# Altium footprint library 2440PCBV3.PcbLib: 52 footprints (part 2 of 4)
Each footprint in its own frame and in the unit in brackets; x right, y up, seen from the top. Pads: shape width x height; smd on the part's side, far side on the other; paste and mask are expansions set on the pad; w line width, h text height; cw(c..) or ccw(c..) is an arc to the next point about the centre after c.
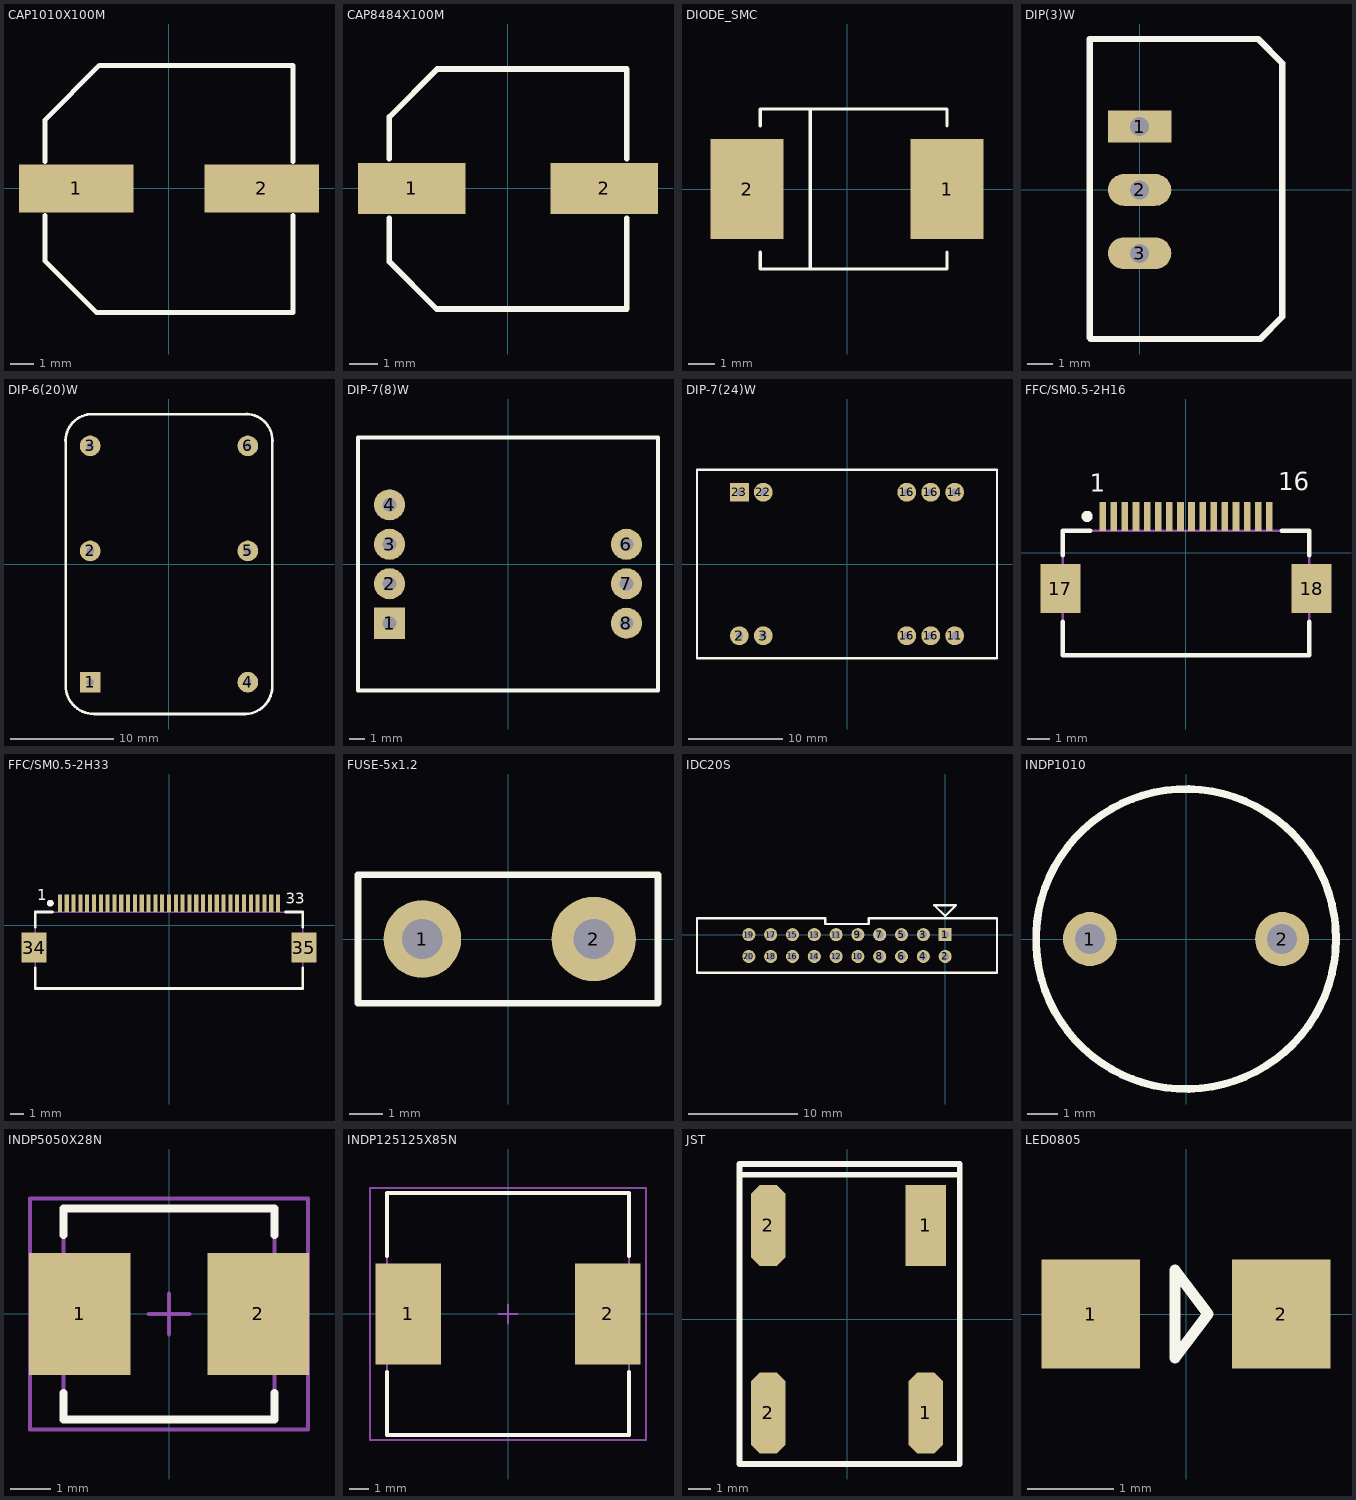
[diagram p1: the footprints below, top view; thin cyan lines are the x and y axes]

## CAP1010X100M [mm]
height 10
pads (2):
  rect 4.8x2 smd: 1(-3.9,0) 2(3.9,0)
Top Overlay:
  lines w0.2: -5.207,-1.125 -5.207,-3.049 -3.042,-5.214 5.207,-5.214 5.207,-1.125 ; -5.207,1.125 -5.207,2.891 -2.929,5.169 5.207,5.169 5.207,1.125
3D body: height 10.2, standoff 0, extent -5.839,-5.19 5.761,5.11

## CAP8484X100M [mm]
height 10
pads (2):
  rect 3.8x1.8 smd: 1(-3.4,0) 2(3.4,0)
Top Overlay:
  lines w0.2: -4.191,-1.05 -4.191,-2.594 -2.522,-4.263 4.191,-4.263 4.191,-1.05 ; -4.191,1.05 -4.191,2.527 -2.499,4.219 4.191,4.219 4.191,1.05
3D body: height 6.2, standoff 0, extent -4.554,-4.155 4.446,4.145

## DIODE_SMC [mil]
pads (2):
  rect 110x150 smd: 1(150,0) 2(-150,0)
Top Overlay:
  lines w5: -130,-95 -130,-120 150,-120 150,-95 ; -130,95 -130,120 150,120 150,95 ; -55,-120 -55,120
3D body: height 50, standoff -54, extent -151.73,-123.62 168.27,124.38

## DIP(3)W [mil]
pads (3):
  rect 100x50 hole 30: 1(0,100)
  oval 100x50 hole 30: 2(0,0) 3(0,-100)
Top Overlay:
  lines w10: -78.74,-233.26 -77,-235 190,-235 225,-200 225,200 187,238 -78.74,238 -78.74,-233.26
3D body: height 393.7, standoff 0, extent -80.16,-233.96 226.32,238.24

## DIP-6(20)W [mm]
pads (6):
  rect 2x2 hole 0.762: 1(-7.62,-11.43)
  round 2 hole 0.762: 2(-7.62,1.27) 3(-7.62,11.43) 4(7.62,-11.43) 5(7.62,1.27) 6(7.62,11.43)
Top Overlay:
  lines w0.254: 7.239,14.5 -7.62,14.5 ccw(c-7.402,11.902) -10,11.684 -10,-11.734 ccw(c-7.244,-11.744) -7.255,-14.5 7.416,-14.5 ccw(c7.3,-11.8) 10,-11.684 10,11.927 ; 7.239,14.505 cw(c7.427,11.927) 10.011,11.938
3D body: height 10, standoff 0, extent -10.002,-14.542 10.115,14.483

## DIP-7(8)W [mm]
pads (7):
  rect 2x2 hole 0.889: 1(-7.62,-3.81)
  round 2 hole 0.889: 2(-7.62,-1.27) 3(-7.62,1.27) 4(-7.62,3.81) 6(7.62,1.27) 7(7.62,-1.27) 8(7.62,-3.81)
Top Overlay:
  lines w0.254: -9.652,-8.128 9.652,-8.128 9.652,8.128 -9.652,8.128 -9.652,-8.128
3D body: height 7, standoff 0, extent -9.644,-8.124 9.645,8.151

## DIP-7(24)W [mm]
pads (10):
  round 2 hole 0.762: 2(-11.43,-7.62) 3(-8.89,-7.62) 11(11.43,-7.62) 14(11.43,7.62) 16(6.35,-7.62) 16(6.35,7.62) 16(8.89,-7.62) 16(8.89,7.62) 22(-8.89,7.62)
  rect 2x2 hole 0.762: 23(-11.43,7.62)
Top Overlay:
  lines w0.254: -15.93,-10.02 15.93,-10.02 15.93,10.02 -15.93,10.02 -15.93,-10.02
Bottom Overlay:
  text "GND" at -9.017,-5.715 h0.8
  text "Vin" at -9.525,4.826 h0.8
  text "0V" at 6.985,4.826 h0.8
  text "+5V" at 12.446,4.953 h0.8
3D body: height 10, standoff 0, extent -15.97,-10.032 15.938,10.048

## FFC/SM0.5-2H16 [mm]
height 2
pads (18):
  rect 0.3x1.3 smd: 1(-3.75,1.625) 2(-3.25,1.625) 3(-2.75,1.625) 4(-2.25,1.625) 5(-1.75,1.625) 6(-1.25,1.625) 7(-0.75,1.625) 8(-0.25,1.625) 9(0.25,1.625) 10(0.75,1.625) 11(1.25,1.625) 12(1.75,1.625) 13(2.25,1.625) 14(2.75,1.625) 15(3.25,1.625) 16(3.75,1.625)
  rect 1.8x2.2 smd: 17(-5.65,-1.625) 18(5.65,-1.625)
Top Overlay:
  circle w0.25: c-4.45,1.625 r0.125
  lines w0.2: -5.55,-3.125 -5.55,-4.625 5.55,-4.625 5.55,-3.125 ; -5.55,-0.125 -5.55,0.975 -4.3,0.975 ; 4.3,0.975 5.55,0.975 5.55,-0.125
  text "1" at -4.329,2.739 h0.8
  text "16" at 4.154,2.79 h0.8
Mechanical 13:
  lines w0.1: -5.55,-4.625 5.55,-4.625 5.55,0.975 -5.55,0.975 -5.55,-4.625
3D body: height 2, standoff 0, extent -5.55,-4.625 5.55,0.975

## FFC/SM0.5-2H33 [mm]
height 2
pads (35):
  rect 0.3x1.3 smd: 1(-8,1.625) 2(-7.5,1.625) 3(-7,1.625) 4(-6.5,1.625) 5(-6,1.625) 6(-5.5,1.625) 7(-5,1.625) 8(-4.5,1.625) 9(-4,1.625) 10(-3.5,1.625) 11(-3,1.625) 12(-2.5,1.625) 13(-2,1.625) 14(-1.5,1.625) 15(-1,1.625) 16(-0.5,1.625) 17(0,1.625) 18(0.5,1.625) 19(1,1.625) 20(1.5,1.625) 21(2,1.625) 22(2.5,1.625) 23(3,1.625) 24(3.5,1.625) 25(4,1.625) 26(4.5,1.625) 27(5,1.625) 28(5.5,1.625) 29(6,1.625) 30(6.5,1.625) 31(7,1.625) 32(7.5,1.625) 33(8,1.625)
  rect 1.8x2.2 smd: 34(-9.9,-1.625) 35(9.9,-1.625)
Top Overlay:
  circle w0.25: c-8.7,1.625 r0.125
  lines w0.2: -9.8,-3.125 -9.8,-4.625 9.8,-4.625 9.8,-3.125 ; -9.8,-0.125 -9.8,0.975 -8.55,0.975 ; 8.55,0.975 9.8,0.975 9.8,-0.125
  text "1" at -9.643,1.825 h0.8
  text "33" at 8.568,1.571 h0.8
Mechanical 13:
  lines w0.1: -9.8,-4.625 9.8,-4.625 9.8,0.975 -9.8,0.975 -9.8,-4.625
3D body: height 2, standoff 0, extent -9.8,-4.625 9.8,0.975

## FUSE-5x1.2 [mm]
pads (2):
  round 2.3 hole 1.2: 1(-2.54,0)
  round 2.5 hole 1.2: 2(2.54,0)
Top Overlay:
  lines w0.2: -4.445,-1.905 4.445,-1.905 4.445,1.905 -4.445,1.905 -4.445,-1.905

## IDC20S [mm]
pads (20):
  rect 1.2x1.2 hole 0.7: 1(0.002,0.017)
  round 1.2 hole 0.7: 2(0.002,-1.983) 3(-1.998,0.017) 4(-1.998,-1.983) 5(-3.998,0.017) 6(-3.998,-1.983) 7(-5.998,0.017) 8(-5.998,-1.983) 9(-7.998,0.017) 10(-7.998,-1.983) 11(-9.998,0.017) 12(-9.998,-1.983) 13(-11.998,0.017) 14(-11.998,-1.983) 15(-13.998,0.017) 16(-13.998,-1.983) 17(-15.998,0.017) 18(-15.998,-1.983) 19(-17.998,0.017) 20(-17.998,-1.983)
Top Overlay:
  lines w0.2: -22.748,-3.483 4.752,-3.483 4.752,1.517 -6.998,1.517 -6.998,0.992 -10.998,0.992 -10.998,1.517 -22.748,1.517 -22.748,-3.483 ; -0.998,2.717 1.002,2.717 0.002,1.717 -0.998,2.717
3D body: height 0, standoff 0, extent -18.856,-2.841 0.86,0.875

## INDP1010 [mm]
pads (2):
  round 1.8 hole 1: 1(-3.201,0) 2(3.202,0)
Top Overlay:
  circle w0.254: c0,0 r5
3D body: height 13.5, standoff 3.5, extent -5.01,-5.01 5.01,5.01

## INDP5050X28N [mm]
pads (2):
  rect 2.5x3 smd: 1(-2.2,0) 2(2.2,0)
Top Overlay:
  lines w0.2: -2.6,-1.95 -2.6,-2.6 2.6,-2.6 2.6,-1.95 ; -2.6,1.95 -2.6,2.6 2.6,2.6 2.6,1.95
Mechanical 13:
  lines w0.1: -2.6,-2.6 -2.6,2.6 2.6,2.6 2.6,-2.6 -2.6,-2.6
Mechanical 15:
  lines w0.1: -0.5,0 0.5,0 ; 0,-0.5 0,0.5 ; -3.425,-2.85 -3.425,2.85 3.425,2.85 3.425,-2.85 -3.425,-2.85
3D body: height 2, standoff 0, extent -1.565,-1.533 1.512,1.544

## INDP125125X85N [mm]
pads (2):
  rect 3.4x5.2 smd: 1(-5.15,0) 2(5.15,0)
Top Overlay:
  lines w0.2: -6.25,-3 -6.25,-6.25 6.25,-6.25 6.25,-3 ; -6.25,3 -6.25,6.25 6.25,6.25 6.25,3
Mechanical 13:
  lines w0.1: -6.25,-6.25 -6.25,6.25 6.25,6.25 6.25,-6.25 -6.25,-6.25
Mechanical 15:
  lines w0.1: -0.5,0 0.5,0 ; 0,-0.5 0,0.5 ; -7.125,-6.5 -7.125,6.5 7.125,6.5 7.125,-6.5 -7.125,-6.5
3D body: height 5.5, standoff -0.64, extent -6.114,-6.13 6.186,6.17

## JST [mm]
pads (4):
  oct 1.524x3.6 smd: 1(3.5,-4.161) 2(-3.5,-4.161) 2(-3.5,4.161)
  rect 1.8x3.6 smd: 1(3.5,4.161)
Top Overlay:
  lines w0.254: -4.751,6.406 4.999,6.406 ; 4.952,-6.425 -4.769,-6.425 -4.769,6.889 4.952,6.889 ; 4.999,-6.425 4.999,6.889
3D body: height 1.27, standoff 0, extent -4.845,-6.407 4.992,6.953

## LED0805 [mm]
pads (2):
  rect 1.143x1.27 smd: 1(-1.105,0) 2(1.105,0)
Top Overlay:
  lines w0.127: -0.127,-0.508 -0.127,0.508 0.254,0 -0.127,-0.508
3D body: height 0.85, standoff 0.01, extent -1.031,-0.459 1.031,0.447